# Altium schematic symbol library SamacSys.SchLib: 51 symbols
Pins are listed as number, name and electrical type; pins without a type are passive.

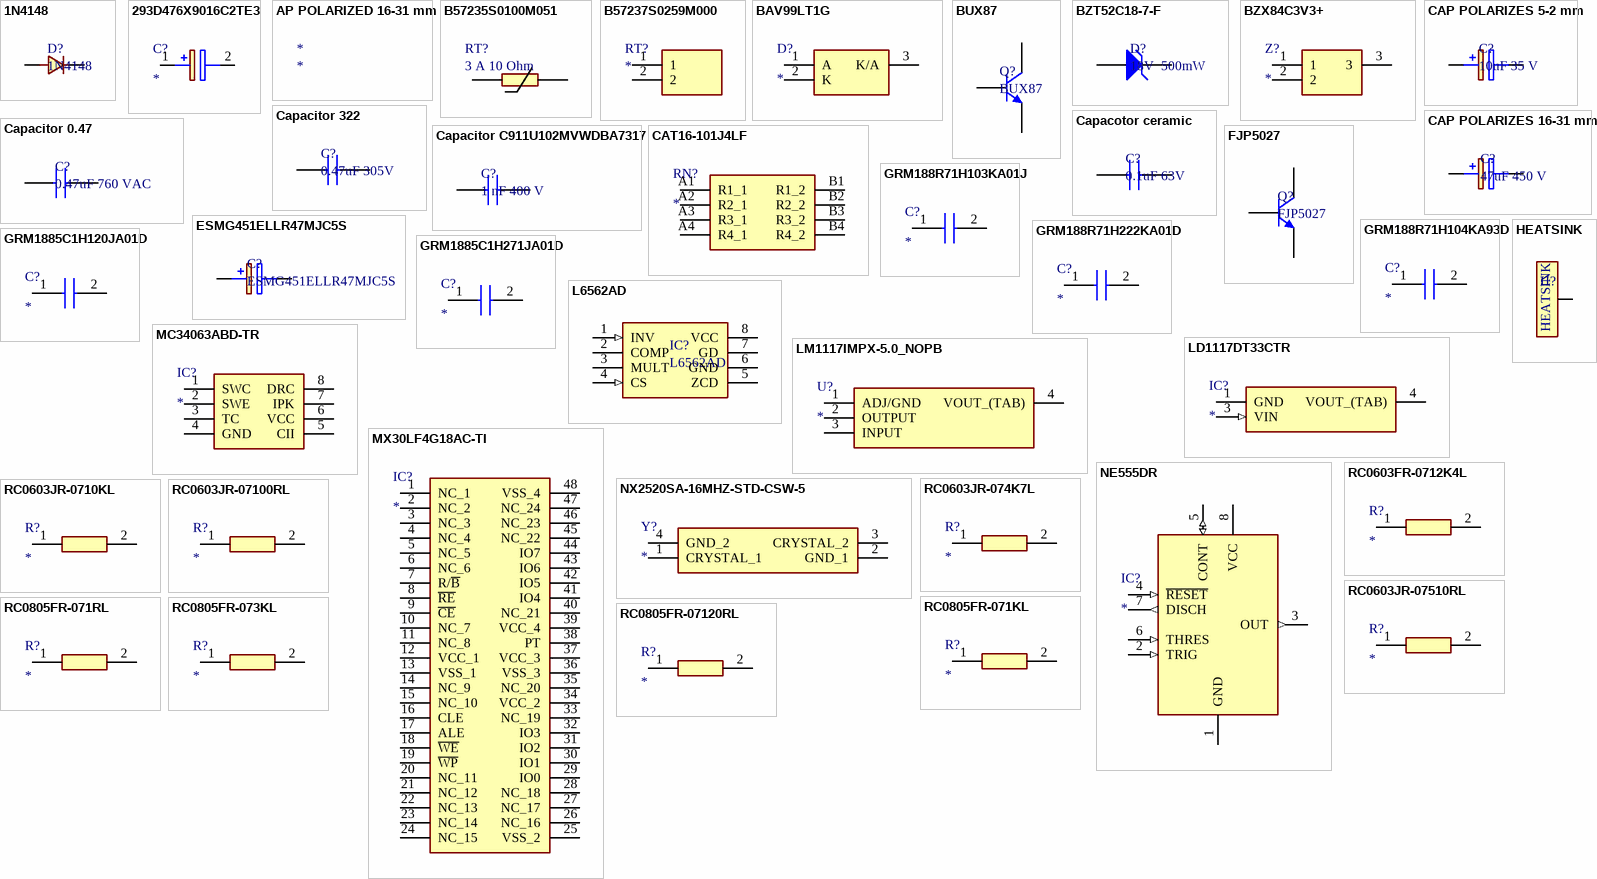
[diagram p0: symbols 1N4148 to RC0805FR-07120RL]

## 1N4148
designator D?
Diode
footprint SOD123
pins: 1, 2

## 293D476X9016C2TE3
designator C?
Capacitor Polarised; Manufacturer_Name: Vishay; Manufacturer_Part_Number: 293D476X9016C2TE3; Allied_Number: 70212577; Datasheet Link: http://www.vishay.com/doc?40002; Height: 2.8mm; Mouser Part Number: 74-293D476X9016C2TE3; Mouser Price/Stock: https://www.mouser.com/Search/Refine.aspx?Keyword=74-293D476X9016C2TE3; RS Part Number: 6844159; RS Price/Stock: https://uk.rs-online.com/web/p/products/6844159; Allied Price/Stock: https://www.alliedelec.com/sprague-vishay-293d476x9016c2te3/70212577/
footprint CAPPM6032X280N
pins: 1 +, 2 -

## AP POLARIZED 16-31 mm
designator *

## B57235S0100M051
designator RT?, comment 3 A 10 Ohm
Thermistor; Manufacturer_Name: EPCOS; Manufacturer_Part_Number: B57235S0100M051; Datasheet Link: https://product.tdk.com/info/en/documents/data_sheet/50/db/icl_16/S235.pdf; Height: 14mm; Mouser Part Number: 871-B57235S0100M051; Mouser Price/Stock: https://www.mouser.co.uk/ProductDetail/EPCOS-TDK/B57235S0100M051?qs=Uha62PnlbFC%2FoMpjFbtGuw%3D%3D
footprint NTC
pins: 1, 2

## B57237S0259M000
designator RT?
Thermistor; Manufacturer_Name: EPCOS; Manufacturer_Part_Number: B57237S0259M000; Datasheet Link: https://en.tdk-electronics.tdk.com/inf/50/db/icl_13/B57237_S237.pdf; Height: 22mm; Mouser Part Number: 871-B57237S0259M000; Mouser Price/Stock: https://www.mouser.co.uk/ProductDetail/EPCOS-TDK/B57237S0259M000?qs=AKDv8POSxR3rj6%252Bw0RTy3A%3D%3D; RS Part Number: 2161422P; RS Price/Stock: http://uk.rs-online.com/web/p/products/2161422P
footprint B57237S0259M000
pins: 1, 2

## BAV99LT1G
designator D?
Diode; Manufacturer_Name: ON Semiconductor; Manufacturer_Part_Number: BAV99LT1G; Datasheet Link: http://www.onsemi.com/pub/Collateral/BAV99LT1-D.PDF; Height: 1.11mm; Mouser Part Number: 863-BAV99LT1G; Mouser Price/Stock: https://www.mouser.com/Search/Refine.aspx?Keyword=863-BAV99LT1G; RS Part Number: 5452686; RS Price/Stock: http://uk.rs-online.com/web/p/products/5452686
footprint SOT96P237X111-3N
pins: 1 A, 2 K, 3 K/A

## BUX87
designator Q?
NPN power transistor
footprint SOT32
pins: 1 E, 2 C, 3 B

## BZT52C18-7-F
designator D?, comment 18V  500mW
Diode Zener
footprint SOD123
footprint SMA
footprint SMB
pins: 1 A, 2 K

## BZX84C3V3+
designator Z?
Zener Diode; Manufacturer_Name: MULTICOMP; Manufacturer_Part_Number: BZX84C3V3+; Datasheet Link: http://www.farnell.com/datasheets/2864041.pdf?_ga=2.65399785.614620193.1582490097-507155298.1582490097; Height: 1.22mm
footprint SOT96P237X122-3N
pins: 1, 2, 3

## CAP POLARIZES 5-2 mm
designator C?, comment 10uF 35 V
Cap polarized
footprint CAP ALUM 5mm
footprint CAP ALUMINIUM 16 mm
pins: 1 +, 2 -

## CAP POLARIZES 16-31 mm
designator C?, comment 47uF 450 V
Cap polarized
footprint CAP ALUMINIUM 16 mm
footprint CAP ALUMINIUM 16 mm 1
pins: 1, 2

## Capacitor 0.47
designator C?, comment 0.47uF 760 VAC
F873FY474K760Z
footprint Capacitor 0.47
pins: 1, 2

## Capacitor 322
designator C?, comment 0.47uF 305V
Capacitor film
footprint CAP32229
pins: 1, 2

## Capacitor C911U102MVWDBA7317
designator C?, comment 1 nF 400 V
Capacitor radial
footprint Capacitor radial
pins: 1, 2

## Capacotor ceramic
designator C?, comment 0.1uF 63V
Ceramic capacitor
footprint Cap1206
footprint CAP0805
pins: 1, 2

## CAT16-101J4LF
designator RN?
Resistor Network; Manufacturer_Name: Bourns; Manufacturer_Part_Number: CAT16-101J4LF; Allied_Number: 70155543; Datasheet Link: https://www.mouser.com/datasheet/2/54/ATCAY-777361.pdf; Height: 0.5mm; Mouser Part Number: 652-CAT16-101J4LF; Mouser Price/Stock: https://www.mouser.com/Search/Refine.aspx?Keyword=652-CAT16-101J4LF; RS Part Number: 5225399P; RS Price/Stock: http://uk.rs-online.com/web/p/products/5225399P; Allied Price/Stock: https://www.alliedelec.com/bourns-cat16-101j4lf/70155543/
footprint CAT16101J4LF
pins: A1 R1_1, A2 R2_1, A3 R3_1, A4 R4_1, B1 R1_2, B2 R2_2, B3 R3_2, B4 R4_2

## ESMG451ELLR47MJC5S
designator C?
Capacitpr polarized
footprint Cap aluminium 12.5x5
pins: 1 +, 2 -

## FJP5027
designator Q?
NPN 800V 3A
footprint TO220
pins: 1, 2 C, 3

## GRM188R71H103KA01J
designator C?
Capacitor; Manufacturer_Name: Murata Electronics; Manufacturer_Part_Number: GRM188R71H103KA01J; Datasheet Link: http://www.murata.com/~/media/webrenewal/support/library/catalog/products/capacitor/mlcc/c02e.pdf; Height: 0.9mm; Mouser Part Number: 81-GRM39X103K50J; Mouser Price/Stock: https://www.mouser.com/Search/Refine.aspx?Keyword=81-GRM39X103K50J
footprint CAPC1608X90N
pins: 1, 2

## GRM188R71H104KA93D
designator C?
Capacitor; Manufacturer_Name: Murata Electronics; Manufacturer_Part_Number: GRM188R71H104KA93D; Datasheet Link: http://psearch.en.murata.com/capacitor/product/GRM188R71H104KA93%23.pdf; Height: 0.9mm; Mouser Part Number: 81-GRM39X104K50D; Mouser Price/Stock: https://www.mouser.com/Search/Refine.aspx?Keyword=81-GRM39X104K50D; RS Part Number: 6242480P; RS Price/Stock: http://uk.rs-online.com/web/p/products/6242480P
footprint CAPC1608X90N
pins: 1, 2

## GRM188R71H222KA01D
designator C?
Capacitor; Manufacturer_Name: Murata Electronics; Manufacturer_Part_Number: GRM188R71H222KA01D; Datasheet Link: http://www.murata.com/~/media/webrenewal/support/library/catalog/products/capacitor/mlcc/c02e.pdf; Height: 0.9mm; Mouser Part Number: 81-GRM39X222K50D; Mouser Price/Stock: https://www.mouser.com/Search/Refine.aspx?Keyword=81-GRM39X222K50D; RS Part Number: 5454250; RS Price/Stock: https://uk.rs-online.com/web/p/products/5454250
footprint CAPC1608X90N
pins: 1, 2

## GRM1885C1H120JA01D
designator C?
Capacitor; Manufacturer_Name: Murata Electronics; Manufacturer_Part_Number: GRM1885C1H120JA01D; Datasheet Link: http://www.murata.com/~/media/webrenewal/support/library/catalog/products/capacitor/mlcc/c02e.pdf; Height: 0.9mm; Mouser Part Number: 81-GRM39C120J50; Mouser Price/Stock: https://www.mouser.com/Search/Refine.aspx?Keyword=81-GRM39C120J50; RS Part Number: 6530349P; RS Price/Stock: http://uk.rs-online.com/web/p/products/6530349P
footprint CAPC1608X90N
pins: 1, 2

## GRM1885C1H271JA01D
designator C?
Capacitor; Manufacturer_Name: Murata Electronics; Manufacturer_Part_Number: GRM1885C1H271JA01D; Datasheet Link: http://www.murata.com/~/media/webrenewal/support/library/catalog/products/capacitor/mlcc/c02e.pdf; Height: 0.9mm; Mouser Part Number: 81-GRM39C271J50; Mouser Price/Stock: http://www.mouser.com/Search/ProductDetail.aspx?qs=NwzSjoTECK50%2feVDOcI5yQ%3d%3d; RS Part Number: 7235878; RS Price/Stock: https://uk.rs-online.com/web/p/products/7235878
footprint CAPC1608X90N
pins: 1, 2

## HEATSINK
designator H?  (value not drawn)
footprint HEATSINK
pins: 1 C (power)

## L6562AD
designator IC?
footprint SOIC127P600X175-8N
footprint soic127P6
pins: 1 INV (in), 2 COMP, 3 MULT, 4 CS (in), 5 ZCD, 6 GND (power), 7 GD, 8 VCC (power)

## LD1117DT33CTR
designator IC?
Integrated Circuit; Manufacturer_Name: STMicroelectronics; Manufacturer_Part_Number: LD1117DT33CTR; Allied_Number: 70390192; Datasheet Link: http://www.st.com/web/en/resource/technical/document/datasheet/CD00000544.pdf; Height: 2.4mm; Mouser Part Number: 511-LD1117DT33C-TR; Mouser Price/Stock: https://www.mouser.com/Search/Refine.aspx?Keyword=511-LD1117DT33C-TR; RS Part Number: 6869268P; RS Price/Stock: http://uk.rs-online.com/web/p/products/6869268P; Allied Price/Stock: http://www.alliedelec.com/stmicroelectronics-ld1117dt33ctr/70390192/
footprint TO228P972X240-3N
pins: 1 GND (power), 3 VIN (in), 4 VOUT_(TAB) (power)

## LM1117IMPX-5.0_NOPB
designator U?
Undefined or Miscellaneous; Manufacturer_Name: Texas Instruments; Manufacturer_Part_Number: LM1117IMPX-5.0/NOPB; Datasheet Link: http://www.ti.com/lit/gpn/lm1117; Height: 1.8mm; Mouser Part Number: 926-LM1117IMPX50NOPB; Mouser Price/Stock: https://www.mouser.com/Search/Refine.aspx?Keyword=926-LM1117IMPX50NOPB
footprint SOT230P700X180-4N
pins: 1 ADJ/GND, 2 OUTPUT, 3 INPUT, 4 VOUT_(TAB)

## MC34063ABD-TR
designator IC?
Integrated Circuit; Manufacturer_Name: STMicroelectronics; Manufacturer_Part_Number: MC34063ABD-TR; Allied_Number: 70390344; Datasheet Link: http://www.st.com/st-web-ui/static/active/en/resource/technical/document/datasheet/CD00001232.pdf; Height: 1.75mm; Mouser Part Number: 511-MC34063ABD-TR; Mouser Price/Stock: https://www.mouser.com/Search/Refine.aspx?Keyword=511-MC34063ABD-TR; RS Part Number: 6868221P; RS Price/Stock: http://uk.rs-online.com/web/p/products/6868221P; Allied Price/Stock: http://www.alliedelec.com/stmicroelectronics-mc34063abd-tr/70390344/
footprint SOIC127P600X175-8N
pins: 1 SWC, 2 SWE, 3 TC, 4 GND, 5 CII, 6 VCC, 7 IPK, 8 DRC

## MX30LF4G18AC-TI
designator IC?
Integrated Circuit; Manufacturer_Name: Macronix; Manufacturer_Part_Number: MX30LF4G18AC-TI; Datasheet Link: http://docs-emea.rs-online.com/webdocs/14ac/0900766b814ac7c6.pdf; Height: 1.2mm; RS Part Number: 9142857P; RS Price/Stock: http://uk.rs-online.com/web/p/products/9142857P
footprint SOP50P2000X120-48N
pins: 1 NC_1, 2 NC_2, 3 NC_3, 4 NC_4, 5 NC_5, 6 NC_6, 7 R/~{B}, 8 ~{RE}, 9 ~{CE}, 10 NC_7, 11 NC_8, 12 VCC_1 (power), 13 VSS_1 (power), 14 NC_9, 15 NC_10, 16 CLE, 17 ALE, 18 ~{WE}, 19 ~{WP}, 20 NC_11, 21 NC_12, 22 NC_13, 23 NC_14, 24 NC_15, 25 VSS_2, 26 NC_16, 27 NC_17, 28 NC_18, 29 IO0, 30 IO1, 31 IO2, 32 IO3, 33 NC_19, 34 VCC_2, 35 NC_20, 36 VSS_3 (power), 37 VCC_3 (power), 38 PT, 39 VCC_4, 40 NC_21, 41 IO4, 42 IO5, 43 IO6, 44 IO7, 45 NC_22, 46 NC_23, 47 NC_24, 48 VSS_4

## NE555DR
designator IC?
Integrated Circuit; Manufacturer_Name: Texas Instruments; Manufacturer_Part_Number: NE555DR; Datasheet Link: http://www.ti.com/lit/ds/symlink/ne555.pdf; Height: 1.75mm; Mouser Part Number: 595-NE555DR; Mouser Price/Stock: https://www.mouser.com/Search/Refine.aspx?Keyword=595-NE555DR; RS Part Number: 1218414; RS Price/Stock: http://uk.rs-online.com/web/p/products/1218414
footprint SOIC127P600X175-8N
pins: 1 GND (power), 2 TRIG (in), 3 OUT (out), 4 ~{RESET} (in), 5 CONT (io), 6 THRES (in), 7 DISCH (out), 8 VCC (power)

## NX2520SA-16MHZ-STD-CSW-5
designator Y?
Crystal or Oscillator; Manufacturer_Name: NDK; Manufacturer_Part_Number: NX2520SA-16MHZ-STD-CSW-5; Datasheet Link: https://www.ndk.com/images/products/catalog/c_NX2520SA-STD-CSW-5_e.pdf; Mouser Part Number: 344-NX2520SA16MCSW5; Mouser Price/Stock: https://www.mouser.com/Search/Refine.aspx?Keyword=344-NX2520SA16MCSW5; RS Part Number: 1847805; RS Price/Stock: http://uk.rs-online.com/web/p/products/1847805
footprint NX2520SA
pins: 1 CRYSTAL_1, 2 GND_1, 3 CRYSTAL_2, 4 GND_2

## RC0603FR-0712K4L
designator R?
Resistor; Manufacturer_Name: YAGEO (PHYCOMP); Manufacturer_Part_Number: RC0603FR-0712K4L; Datasheet Link: http://www.yageo.com/documents/recent/PYu-RC0603_51_RoHS_L_v5.pdf; Height: 0.55mm; Mouser Part Number: 603-RC0603FR-0712K4L; Mouser Price/Stock: https://www.mouser.com/Search/Refine.aspx?Keyword=603-RC0603FR-0712K4L
footprint RESC1608X55N
pins: 1, 2

## RC0603JR-074K7L
designator R?
Resistor; Manufacturer_Name: YAGEO (PHYCOMP); Manufacturer_Part_Number: RC0603JR-074K7L; Datasheet Link: http://www.yageo.com/documents/recent/PYu-RC0603_51_RoHS_L_v5.pdf; Height: 0.55mm; Mouser Part Number: 603-RC0603JR-074K7L; Mouser Price/Stock: https://www.mouser.com/Search/Refine.aspx?Keyword=603-RC0603JR-074K7L
footprint RESC1608X55N
pins: 1, 2

## RC0603JR-0710KL
designator R?
Resistor; Manufacturer_Name: YAGEO (PHYCOMP); Manufacturer_Part_Number: RC0603JR-0710KL; Datasheet Link: http://www.yageo.com/documents/recent/PYu-RC0603_51_RoHS_L_v5.pdf; Height: 0.55mm; Mouser Part Number: 603-RC0603JR-0710KL; Mouser Price/Stock: https://www.mouser.com/Search/Refine.aspx?Keyword=603-RC0603JR-0710KL
footprint RESC1608X55N
pins: 1, 2

## RC0603JR-07100RL
designator R?
Resistor; Manufacturer_Name: YAGEO (PHYCOMP); Manufacturer_Part_Number: RC0603JR-07100RL; Datasheet Link: http://www.yageo.com/documents/recent/PYu-RC0603_51_RoHS_L_v5.pdf; Height: 0.55mm; Mouser Part Number: 603-RC0603JR-07100RL; Mouser Price/Stock: https://www.mouser.com/Search/Refine.aspx?Keyword=603-RC0603JR-07100RL
footprint RESC1608X55N
pins: 1, 2

## RC0603JR-07510RL
designator R?
Resistor; Manufacturer_Name: YAGEO (PHYCOMP); Manufacturer_Part_Number: RC0603JR-07510RL; Datasheet Link: http://www.yageo.com/documents/recent/PYu-RC0603_51_RoHS_L_v5.pdf; Height: 0.55mm; Mouser Part Number: 603-RC0603JR-07510RL; Mouser Price/Stock: https://www.mouser.com/Search/Refine.aspx?Keyword=603-RC0603JR-07510RL
footprint RESC1608X55N
pins: 1, 2

## RC0805FR-071KL
designator R?
Resistor; Manufacturer_Name: YAGEO (PHYCOMP); Manufacturer_Part_Number: RC0805FR-071KL; Datasheet Link: http://www.yageo.com/documents/recent/PYu-RC_Group_51_RoHS_L_10.pdf; Height: 0.6mm; Mouser Part Number: 603-RC0805FR-071KL; Mouser Price/Stock: https://www.mouser.com/Search/Refine.aspx?Keyword=603-RC0805FR-071KL; RS Part Number: 6183583; RS Price/Stock: http://uk.rs-online.com/web/p/products/6183583
footprint RESC2012X60N
pins: 1, 2

## RC0805FR-071RL
designator R?
Resistor; Manufacturer_Name: YAGEO (PHYCOMP); Manufacturer_Part_Number: RC0805FR-071RL; Datasheet Link: http://www.yageo.com/documents/recent/PYu-RC_Group_51_RoHS_L_10.pdf; Height: 0.6mm; Mouser Part Number: 603-RC0805FR-071RL; Mouser Price/Stock: https://www.mouser.com/Search/Refine.aspx?Keyword=603-RC0805FR-071RL; RS Part Number: 6183763; RS Price/Stock: https://uk.rs-online.com/web/p/products/6183763
footprint RESC2012X60N
pins: 1, 2

## RC0805FR-073KL
designator R?
Resistor; Manufacturer_Name: YAGEO (PHYCOMP); Manufacturer_Part_Number: RC0805FR-073KL; Datasheet Link: http://www.yageo.com/documents/recent/PYu-RC_Group_51_RoHS_L_10.pdf; Height: 0.6mm; Mouser Part Number: 603-RC0805FR-073KL; Mouser Price/Stock: https://www.mouser.com/Search/Refine.aspx?Keyword=603-RC0805FR-073KL; RS Part Number: 6183381; RS Price/Stock: https://uk.rs-online.com/web/p/products/6183381
footprint RESC2012X60N
pins: 1, 2

## RC0805FR-07120RL
designator R?
Resistor; Manufacturer_Name: YAGEO (PHYCOMP); Manufacturer_Part_Number: RC0805FR-07120RL; Datasheet Link: http://www.yageo.com/documents/recent/PYu-RC_Group_51_RoHS_L_10.pdf; Height: 0.6mm; Mouser Part Number: 603-RC0805FR-07120RL; Mouser Price/Stock: https://www.mouser.com/Search/Refine.aspx?Keyword=603-RC0805FR-07120RL; RS Part Number: 6185258; RS Price/Stock: https://uk.rs-online.com/web/p/products/6185258
footprint RESC2012X60N
pins: 1, 2

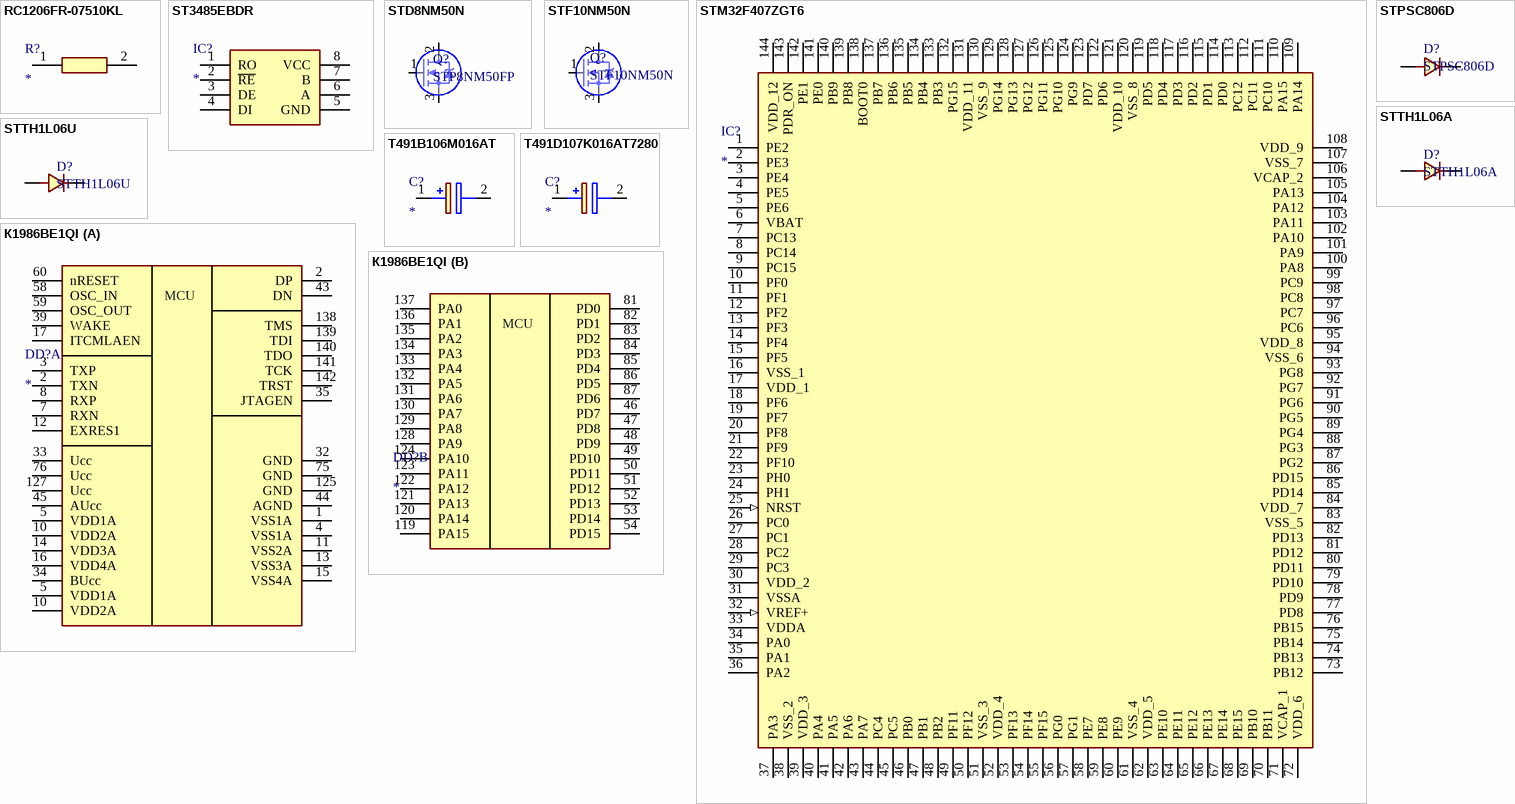
[diagram p1: symbols RC1206FR-07510KL to К1986ВЕ1QI]

## RC1206FR-07510KL
designator R?
Resistor; Manufacturer_Name: YAGEO (PHYCOMP); Manufacturer_Part_Number: RC1206FR-07510KL; Datasheet Link: https://www.sos.sk/productdata/35/10/4/35104/RC1206.pdf; Height: 0.65mm; Mouser Part Number: 603-RC1206FR-07510KL; Mouser Price/Stock: https://www.mouser.com/Search/Refine.aspx?Keyword=603-RC1206FR-07510KL; RS Part Number: 6178941; RS Price/Stock: https://uk.rs-online.com/web/p/products/6178941
footprint RESC3116X65N
pins: 1, 2

## ST3485EBDR
designator IC?
Integrated Circuit; Manufacturer_Name: STMicroelectronics; Manufacturer_Part_Number: ST3485EBDR; Allied_Number: 70390598; Datasheet Link: http://www.st.com/st-web-ui/static/active/en/resource/technical/document/datasheet/CD00003137.pdf; Height: 1.75mm; Mouser Part Number: 511-ST3485EBDR; Mouser Price/Stock: https://www.mouser.com/Search/Refine.aspx?Keyword=511-ST3485EBDR; RS Part Number: 0426102P; RS Price/Stock: http://uk.rs-online.com/web/p/products/0426102P; Allied Price/Stock: http://www.alliedelec.com/stmicroelectronics-st3485ebdr/70390598/
footprint SOIC127P600X175-8N
pins: 1 RO, 2 ~{RE}, 3 DE, 4 DI, 5 GND, 6 A, 7 B, 8 VCC

## STD8NM50N
designator Q?, comment STP8NM50FP
N-channel 500 V, 0.73 Ω typ., 5 A
footprint TO220
pins: 1 G, 2 D, 3 S

## STF10NM50N
designator Q?
N-channel 500 V, 0.63 Ω typ., 57A
footprint DPAK
pins: 1 G, 2 D, 3 S

## STM32F407ZGT6
designator IC?
Integrated Circuit; Manufacturer_Name: STMicroelectronics; Manufacturer_Part_Number: STM32F407ZGT6; Allied_Number: 70391108; Datasheet Link: http://www.st.com/web/en/resource/technical/document/datasheet/DM00037051.pdf; Height: 1.6mm; Mouser Part Number: 511-STM32F407ZGT6; Mouser Price/Stock: https://www.mouser.com/Search/Refine.aspx?Keyword=511-STM32F407ZGT6; RS Part Number: 7468220P; RS Price/Stock: http://uk.rs-online.com/web/p/products/7468220P; Allied Price/Stock: http://www.alliedelec.com/stmicroelectronics-stm32f407zgt6/70391108/
footprint QFP50P2200X2200X160-144N
pins: 1 PE2, 2 PE3, 3 PE4, 4 PE5, 5 PE6, 6 VBAT, 7 PC13, 8 PC14, 9 PC15, 10 PF0, 11 PF1, 12 PF2, 13 PF3, 14 PF4, 15 PF5, 16 VSS_1 (power), 17 VDD_1 (power), 18 PF6, 19 PF7, 20 PF8, 21 PF9, 22 PF10, 23 PH0, 24 PH1, 25 NRST (in), 26 PC0, 27 PC1, 28 PC2, 29 PC3, 30 VDD_2 (power), 31 VSSA (power), 32 VREF+ (in), 33 VDDA (power), 34 PA0, 35 PA1, 36 PA2, 37 PA3, 38 VSS_2 (power), 39 VDD_3 (power), 40 PA4, 41 PA5, 42 PA6, 43 PA7, 44 PC4, 45 PC5, 46 PB0, 47 PB1, 48 PB2, 49 PF11, 50 PF12, 51 VSS_3 (power), 52 VDD_4 (power), 53 PF13, 54 PF14, 55 PF15, 56 PG0, 57 PG1, 58 PE7, 59 PE8, 60 PE9, 61 VSS_4 (power), 62 VDD_5 (power), 63 PE10, 64 PE11, 65 PE12, 66 PE13, 67 PE14, 68 PE15, 69 PB10, 70 PB11, 71 VCAP_1, 72 VDD_6 (power), 73 PB12, 74 PB13, 75 PB14, 76 PB15, 77 PD8, 78 PD9, 79 PD10, 80 PD11, 81 PD12, 82 PD13, 83 VSS_5 (power), 84 VDD_7 (power), 85 PD14, 86 PD15, 87 PG2, 88 PG3, 89 PG4, 90 PG5, 91 PG6, 92 PG7, 93 PG8, 94 VSS_6 (power), 95 VDD_8 (power), 96 PC6, 97 PC7, 98 PC8, 99 PC9, 100 PA8, 101 PA9, 102 PA10, 103 PA11, 104 PA12, 105 PA13, 106 VCAP_2, 107 VSS_7 (power), 108 VDD_9 (power), 109 PA14, 110 PA15, 111 PC10, 112 PC11, 113 PC12, 114 PD0, 115 PD1, 116 PD2, 117 PD3, 118 PD4, 119 PD5, 120 VSS_8 (power), 121 VDD_10 (power), 122 PD6, 123 PD7, 124 PG9, 125 PG10, 126 PG11, 127 PG12, 128 PG13, 129 PG14, 130 VSS_9 (power), 131 VDD_11 (power), 132 PG15, 133 PB3, 134 PB4, 135 PB5, 136 PB6, 137 PB7, 138 BOOT0, 139 PB8, 140 PB9, 141 PE0, 142 PE1, 143 PDR_ON, 144 VDD_12 (power)

## STPSC806D
designator D?
600 V, 5 A
footprint TO220 DOIDE
pins: 1, 2

## STTH1L06A
designator D?
600 V ,1 A
footprint SMA
pins: 1, 2

## STTH1L06U
designator D?
600 V 1 A
footprint SMB
pins: 1, 2

## T491B106M016AT
designator C?
Capacitor Polarised; Manufacturer_Name: Kemet; Manufacturer_Part_Number: T491B106M016AT; Allied_Number: 70097144; Datasheet Link: https://componentsearchengine.com/Datasheets/2/T491B106M016AT.pdf; Height: 2.1mm; Mouser Part Number: 80-T491B106M016; Mouser Price/Stock: https://www.mouser.com/Search/Refine.aspx?Keyword=80-T491B106M016; RS Part Number: 6480632P; RS Price/Stock: http://uk.rs-online.com/web/p/products/6480632P; Allied Price/Stock: https://www.alliedelec.com/kemet-t491b106m016at/70097144/
footprint CAPPM3528X210N
pins: 1 +, 2 -

## T491D107K016AT7280
designator C?
Capacitor Polarised; Manufacturer_Name: Kemet; Manufacturer_Part_Number: T491D107K016AT7280; Datasheet Link: https://search.kemet.com/component-edge/download/specsheet/T491D107K016AT7280.pdf; Height: 3.1mm; Mouser Part Number: 80-T491D107K16AT7280; Mouser Price/Stock: https://www.mouser.com/Search/Refine.aspx?Keyword=80-T491D107K16AT7280
footprint CAPPM7343X310N
pins: 1 +, 2 -

## К1986ВЕ1QI
designator DD?
Integrated Circuit; Manufacturer_Name: STMicroelectronics; Manufacturer_Part_Number: STM32F042K6T6; Datasheet Link: http://docs-emea.rs-online.com/webdocs/14d7/0900766b814d7c36.pdf; Height: 1.6mm; Mouser Part Number: 511-STM32F042K6T6; Mouser Price/Stock: https://www.mouser.com/Search/Refine.aspx?Keyword=511-STM32F042K6T6; RS Part Number: 1106613P; RS Price/Stock: http://uk.rs-online.com/web/p/products/1106613P
part A pins: 1 VSS1A, 2 TXN, 2 DP, 3 TXP, 4 VSS1A, 5 VDD1A, 5 VDD1A, 7 RXN, 8 RXP, 10 VDD2A, 10 VDD2A, 11 VSS2A, 12 EXRES1, 13 VSS3A, 14 VDD3A, 15 VSS4A, 16 VDD4A, 17 ITCMLAEN, 32 GND, 33 Ucc, 34 BUcc, 35 JTAGEN, 39 WAKE, 43 DN, 44 AGND, 45 AUcc, 58 OSC_IN, 59 OSC_OUT, 60 nRESET, 75 GND, 76 Ucc, 125 GND, 127 Ucc, 138 TMS, 139 TDI, 140 TDO, 141 TCK, 142 TRST
part B pins: 46 PD7, 47 PD8, 48 PD9, 49 PD10, 50 PD11, 51 PD12, 52 PD13, 53 PD14, 54 PD15, 81 PD0, 82 PD1, 83 PD2, 84 PD3, 85 PD4, 86 PD5, 87 PD6, 119 PA15, 120 PA14, 121 PA13, 122 PA12, 123 PA11, 124 PA10, 128 PA9, 129 PA8, 130 PA7, 131 PA6, 132 PA5, 133 PA4, 134 PA3, 135 PA2, 136 PA1, 137 PA0
part A text: MCU
part B text: MCU